# Altium footprint library BGA.PcbLib: 7 footprints
Each footprint in its own frame and in the unit in brackets; x right, y up, seen from the top. Pads: shape width x height; smd on the part's side, far side on the other; paste and mask are expansions set on the pad; w line width, h text height; cw(c..) or ccw(c..) is an arc to the next point about the centre after c.
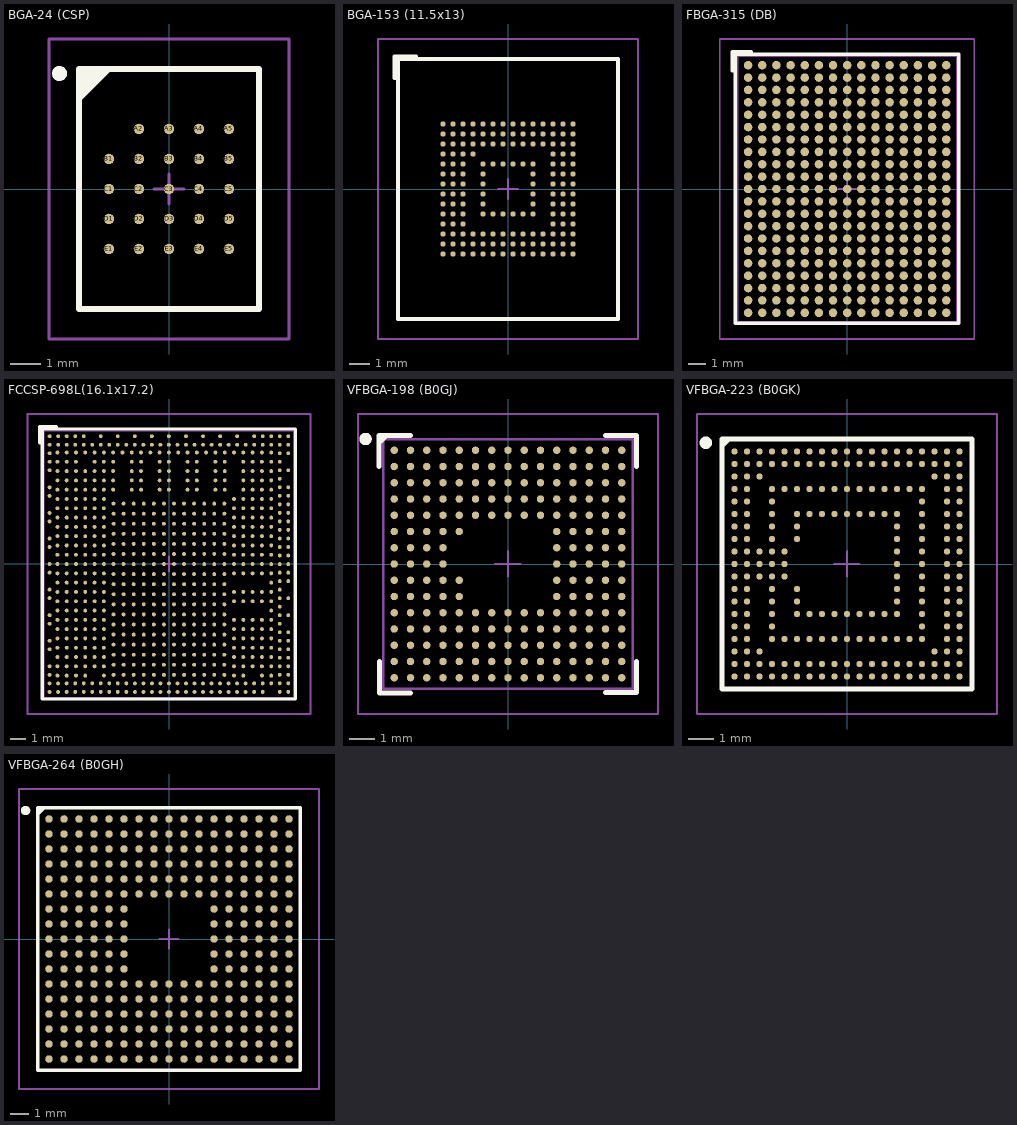
[diagram p0: the footprints below, top view; thin cyan lines are the x and y axes]

## BGA-24 (CSP) [mm] "BGA, 24-Leads, Body 6.00x8.00mmx1.20mm, Pitch 1.00mm"
height 1.2
pads (24):
  round 0.35 smd: A2(-1,2) A3(0,2) A4(1,2) A5(2,2) B1(-2,1) B2(-1,1) B3(0,1) B4(1,1) B5(2,1) C1(-2,0) C2(-1,0) C3(0,0) C4(1,0) C5(2,0) D1(-2,-1) D2(-1,-1) D3(0,-1) D4(1,-1) D5(2,-1) E1(-2,-2) E2(-1,-2) E3(0,-2) E4(1,-2) E5(2,-2)
Top Overlay:
  circle w0.25: c-3.65,3.85 r0.125
  region: -2,4 -3,3 -3,4
  lines w0.2: -3,3 -2,4 ; -3,-4 3,-4 3,4 -3,4 -3,-4
Mechanical 13:
  lines w0.1: -3,-4 3,-4 3,4 -3,4 -3,-4
Mechanical 15:
  lines w0.05: -3,-4 -3,4 3,4 3,-4 -3,-4
  lines w0.1: -0.5,0 0.5,0 ; 0,-0.5 0,0.5 ; -4,-5 4,-5 4,5 -4,5 -4,-5
3D body "BGA-24 (CSP).step": height 1.2, standoff 0, extent -3,-4 3,4

## BGA-153 (11.5x13) [mm] "BGA, 153-Leads, Body 11.00x13.00mmx0.95mm, Pitch 0.50mm"
height 0.95
pads (153):
  round 0.27 smd mask+0.05: A1(-3.25,3.25) A2(-2.75,3.25) A3(-2.25,3.25) A4(-1.75,3.25) A5(-1.25,3.25) A6(-0.75,3.25) A7(-0.25,3.25) A8(0.25,3.25) A9(0.75,3.25) A10(1.25,3.25) A11(1.75,3.25) A12(2.25,3.25) A13(2.75,3.25) A14(3.25,3.25) B1(-3.25,2.75) B2(-2.75,2.75) B3(-2.25,2.75) B4(-1.75,2.75) B5(-1.25,2.75) B6(-0.75,2.75) B7(-0.25,2.75) B8(0.25,2.75) B9(0.75,2.75) B10(1.25,2.75) B11(1.75,2.75) B12(2.25,2.75) B13(2.75,2.75) B14(3.25,2.75) C1(-3.25,2.25) C2(-2.75,2.25) C3(-2.25,2.25) C4(-1.75,2.25) C5(-1.25,2.25) C6(-0.75,2.25) C7(-0.25,2.25) C8(0.25,2.25) C9(0.75,2.25) C10(1.25,2.25) C11(1.75,2.25) C12(2.25,2.25) C13(2.75,2.25) C14(3.25,2.25) D1(-3.25,1.75) D2(-2.75,1.75) D3(-2.25,1.75) D4(-1.75,1.75) D12(2.25,1.75) D13(2.75,1.75) D14(3.25,1.75) E1(-3.25,1.25) E2(-2.75,1.25) E3(-2.25,1.25) E5(-1.25,1.25) E6(-0.75,1.25) E7(-0.25,1.25) E8(0.25,1.25) E9(0.75,1.25) E10(1.25,1.25) E12(2.25,1.25) E13(2.75,1.25) E14(3.25,1.25) F1(-3.25,0.75) F2(-2.75,0.75) F3(-2.25,0.75) F5(-1.25,0.75) F10(1.25,0.75) F12(2.25,0.75) F13(2.75,0.75) F14(3.25,0.75) G1(-3.25,0.25) G2(-2.75,0.25) G3(-2.25,0.25) G5(-1.25,0.25) G10(1.25,0.25) G12(2.25,0.25) G13(2.75,0.25) G14(3.25,0.25) H1(-3.25,-0.25) H2(-2.75,-0.25) H3(-2.25,-0.25) H5(-1.25,-0.25) H10(1.25,-0.25) H12(2.25,-0.25) H13(2.75,-0.25) H14(3.25,-0.25) J1(-3.25,-0.75) J2(-2.75,-0.75) J3(-2.25,-0.75) J5(-1.25,-0.75) J10(1.25,-0.75) J12(2.25,-0.75) J13(2.75,-0.75) J14(3.25,-0.75) K1(-3.25,-1.25) K2(-2.75,-1.25) K3(-2.25,-1.25) K5(-1.25,-1.25) K6(-0.75,-1.25) K7(-0.25,-1.25) K8(0.25,-1.25) K9(0.75,-1.25) K10(1.25,-1.25) K12(2.25,-1.25) K13(2.75,-1.25) K14(3.25,-1.25) L1(-3.25,-1.75) L2(-2.75,-1.75) L3(-2.25,-1.75) L12(2.25,-1.75) L13(2.75,-1.75) L14(3.25,-1.75) M1(-3.25,-2.25) M2(-2.75,-2.25) M3(-2.25,-2.25) M4(-1.75,-2.25) M5(-1.25,-2.25) M6(-0.75,-2.25) M7(-0.25,-2.25) M8(0.25,-2.25) M9(0.75,-2.25) M10(1.25,-2.25) M11(1.75,-2.25) M12(2.25,-2.25) M13(2.75,-2.25) M14(3.25,-2.25) N1(-3.25,-2.75) N2(-2.75,-2.75) N3(-2.25,-2.75) N4(-1.75,-2.75) N5(-1.25,-2.75) N6(-0.75,-2.75) N7(-0.25,-2.75) N8(0.25,-2.75) N9(0.75,-2.75) N10(1.25,-2.75) N11(1.75,-2.75) N12(2.25,-2.75) N13(2.75,-2.75) N14(3.25,-2.75) P1(-3.25,-3.25) P2(-2.75,-3.25) P3(-2.25,-3.25) P4(-1.75,-3.25) P5(-1.25,-3.25) P6(-0.75,-3.25) P7(-0.25,-3.25) P8(0.25,-3.25) P9(0.75,-3.25) P10(1.25,-3.25) P11(1.75,-3.25) P12(2.25,-3.25) P13(2.75,-3.25) P14(3.25,-3.25)
Top Overlay:
  lines w0.2: -5.664,5.559 -5.594,5.559 -5.594,6.559 -4.594,6.559 -4.594,6.631 -4.664,6.631 -5.664,6.631 -5.664,5.631 -5.664,5.559 ; -5.5,-6.5 -5.5,6.5 5.5,6.5 5.5,-6.5 -5.5,-6.5
Mechanical 13:
  lines w0.1: -5.5,-6.5 -5.5,6.5 5.5,6.5 5.5,-6.5 -5.5,-6.5
Mechanical 15:
  lines w0.05: -5.5,-6.5 -5.5,6.5 5.5,6.5 5.5,-6.5 -5.5,-6.5
  lines w0.1: -0.5,0 0.5,0 ; 0,-0.5 0,0.5 ; -6.5,-7.5 5.5,-7.5 6.5,-7.5 6.5,7.5 -6.5,7.5 -6.5,-7.5
3D body "BGA-153 (11.5x13).step": height 0.95, standoff 0, extent -5.5,-6.5 5.5,6.5

## FBGA-315 (DB) [mm] "BGA, 315-Leads, Body 12.40x15.00mmx1.10mm, Pitch 0.70/0.8mm"
height 1.1
pads (315):
  round 0.48 smd mask+0.05: A1(-5.6,7) A2(-4.8,7) A3(-4,7) A4(-3.2,7) A5(-2.4,7) A6(-1.6,7) A7(-0.8,7) A8(0,7) A9(0.8,7) A10(1.6,7) A11(2.4,7) A12(3.2,7) A13(4,7) A14(4.8,7) A15(5.6,7) AA1(-5.6,-7) AA2(-4.8,-7) AA3(-4,-7) AA4(-3.2,-7) AA5(-2.4,-7) AA6(-1.6,-7) AA7(-0.8,-7) AA8(0,-7) AA9(0.8,-7) AA10(1.6,-7) AA11(2.4,-7) AA12(3.2,-7) AA13(4,-7) AA14(4.8,-7) AA15(5.6,-7) B1(-5.6,6.3) B2(-4.8,6.3) B3(-4,6.3) B4(-3.2,6.3) B5(-2.4,6.3) B6(-1.6,6.3) B7(-0.8,6.3) B8(0,6.3) B9(0.8,6.3) B10(1.6,6.3) B11(2.4,6.3) B12(3.2,6.3) B13(4,6.3) B14(4.8,6.3) B15(5.6,6.3) C1(-5.6,5.6) C2(-4.8,5.6) C3(-4,5.6) C4(-3.2,5.6) C5(-2.4,5.6) C6(-1.6,5.6) C7(-0.8,5.6) C8(0,5.6) C9(0.8,5.6) C10(1.6,5.6) C11(2.4,5.6) C12(3.2,5.6) C13(4,5.6) C14(4.8,5.6) C15(5.6,5.6) D1(-5.6,4.9) D2(-4.8,4.9) D3(-4,4.9) D4(-3.2,4.9) D5(-2.4,4.9) D6(-1.6,4.9) D7(-0.8,4.9) D8(0,4.9) D9(0.8,4.9) D10(1.6,4.9) D11(2.4,4.9) D12(3.2,4.9) D13(4,4.9) D14(4.8,4.9) D15(5.6,4.9) E1(-5.6,4.2) E2(-4.8,4.2) E3(-4,4.2) E4(-3.2,4.2) E5(-2.4,4.2) E6(-1.6,4.2) E7(-0.8,4.2) E8(0,4.2) E9(0.8,4.2) E10(1.6,4.2) E11(2.4,4.2) E12(3.2,4.2) E13(4,4.2) E14(4.8,4.2) E15(5.6,4.2) F1(-5.6,3.5) F2(-4.8,3.5) F3(-4,3.5) F4(-3.2,3.5) F5(-2.4,3.5) F6(-1.6,3.5) F7(-0.8,3.5) F8(0,3.5) F9(0.8,3.5) F10(1.6,3.5) F11(2.4,3.5) F12(3.2,3.5) F13(4,3.5) F14(4.8,3.5) F15(5.6,3.5) G1(-5.6,2.8) G2(-4.8,2.8) G3(-4,2.8) G4(-3.2,2.8) G5(-2.4,2.8) G6(-1.6,2.8) G7(-0.8,2.8) G8(0,2.8) G9(0.8,2.8) G10(1.6,2.8) G11(2.4,2.8) G12(3.2,2.8) G13(4,2.8) G14(4.8,2.8) G15(5.6,2.8) H1(-5.6,2.1) H2(-4.8,2.1) H3(-4,2.1) H4(-3.2,2.1) H5(-2.4,2.1) H6(-1.6,2.1) H7(-0.8,2.1) H8(0,2.1) H9(0.8,2.1) H10(1.6,2.1) H11(2.4,2.1) H12(3.2,2.1) H13(4,2.1) H14(4.8,2.1) H15(5.6,2.1) J1(-5.6,1.4) J2(-4.8,1.4) J3(-4,1.4) J4(-3.2,1.4) J5(-2.4,1.4) J6(-1.6,1.4) J7(-0.8,1.4) J8(0,1.4) J9(0.8,1.4) J10(1.6,1.4) J11(2.4,1.4) J12(3.2,1.4) J13(4,1.4) J14(4.8,1.4) J15(5.6,1.4) K1(-5.6,0.7) K2(-4.8,0.7) K3(-4,0.7) K4(-3.2,0.7) K5(-2.4,0.7) K6(-1.6,0.7) K7(-0.8,0.7) K8(0,0.7) K9(0.8,0.7) K10(1.6,0.7) K11(2.4,0.7) K12(3.2,0.7) K13(4,0.7) K14(4.8,0.7) K15(5.6,0.7) L1(-5.6,0) L2(-4.8,0) L3(-4,0) L4(-3.2,0) L5(-2.4,0) L6(-1.6,0) L7(-0.8,0) L8(0,0) L9(0.8,0) L10(1.6,0) L11(2.4,0) L12(3.2,0) L13(4,0) L14(4.8,0) L15(5.6,0) M1(-5.6,-0.7) M2(-4.8,-0.7) M3(-4,-0.7) M4(-3.2,-0.7) M5(-2.4,-0.7) M6(-1.6,-0.7) M7(-0.8,-0.7) M8(0,-0.7) M9(0.8,-0.7) M10(1.6,-0.7) M11(2.4,-0.7) M12(3.2,-0.7) M13(4,-0.7) M14(4.8,-0.7) M15(5.6,-0.7) N1(-5.6,-1.4) N2(-4.8,-1.4) N3(-4,-1.4) N4(-3.2,-1.4) N5(-2.4,-1.4) N6(-1.6,-1.4) N7(-0.8,-1.4) N8(0,-1.4) N9(0.8,-1.4) N10(1.6,-1.4) N11(2.4,-1.4) N12(3.2,-1.4) N13(4,-1.4) N14(4.8,-1.4) N15(5.6,-1.4) P1(-5.6,-2.1) P2(-4.8,-2.1) P3(-4,-2.1) P4(-3.2,-2.1) P5(-2.4,-2.1) P6(-1.6,-2.1) P7(-0.8,-2.1) P8(0,-2.1) P9(0.8,-2.1) P10(1.6,-2.1) P11(2.4,-2.1) P12(3.2,-2.1) P13(4,-2.1) P14(4.8,-2.1) P15(5.6,-2.1) R1(-5.6,-2.8) R2(-4.8,-2.8) R3(-4,-2.8) R4(-3.2,-2.8) R5(-2.4,-2.8) R6(-1.6,-2.8) R7(-0.8,-2.8) R8(0,-2.8) R9(0.8,-2.8) R10(1.6,-2.8) R11(2.4,-2.8) R12(3.2,-2.8) R13(4,-2.8) R14(4.8,-2.8) R15(5.6,-2.8) T1(-5.6,-3.5) T2(-4.8,-3.5) T3(-4,-3.5) T4(-3.2,-3.5) T5(-2.4,-3.5) T6(-1.6,-3.5) T7(-0.8,-3.5) T8(0,-3.5) T9(0.8,-3.5) T10(1.6,-3.5) T11(2.4,-3.5) T12(3.2,-3.5) T13(4,-3.5) T14(4.8,-3.5) T15(5.6,-3.5) U1(-5.6,-4.2) U2(-4.8,-4.2) U3(-4,-4.2) U4(-3.2,-4.2) U5(-2.4,-4.2) U6(-1.6,-4.2) U7(-0.8,-4.2) U8(0,-4.2) U9(0.8,-4.2) U10(1.6,-4.2) U11(2.4,-4.2) U12(3.2,-4.2) U13(4,-4.2) U14(4.8,-4.2) U15(5.6,-4.2) V1(-5.6,-4.9) V2(-4.8,-4.9) V3(-4,-4.9) V4(-3.2,-4.9) V5(-2.4,-4.9) V6(-1.6,-4.9) V7(-0.8,-4.9) V8(0,-4.9) V9(0.8,-4.9) V10(1.6,-4.9) V11(2.4,-4.9) V12(3.2,-4.9) V13(4,-4.9) V14(4.8,-4.9) V15(5.6,-4.9) W1(-5.6,-5.6) W2(-4.8,-5.6) W3(-4,-5.6) W4(-3.2,-5.6) W5(-2.4,-5.6) W6(-1.6,-5.6) W7(-0.8,-5.6) W8(0,-5.6) W9(0.8,-5.6) W10(1.6,-5.6) W11(2.4,-5.6) W12(3.2,-5.6) W13(4,-5.6) W14(4.8,-5.6) W15(5.6,-5.6) Y1(-5.6,-6.3) Y2(-4.8,-6.3) Y3(-4,-6.3) Y4(-3.2,-6.3) Y5(-2.4,-6.3) Y6(-1.6,-6.3) Y7(-0.8,-6.3) Y8(0,-6.3) Y9(0.8,-6.3) Y10(1.6,-6.3) Y11(2.4,-6.3) Y12(3.2,-6.3) Y13(4,-6.3) Y14(4.8,-6.3) Y15(5.6,-6.3)
Top Overlay:
  lines w0.2: -6.484,6.689 -6.484,6.761 -6.484,7.761 -5.484,7.761 -5.414,7.761 -5.414,7.689 -6.414,7.689 -6.414,6.689 -6.484,6.689 ; -6.33,-7.6 6.3,-7.6 6.3,7.62 -4.56,7.62 -6.33,7.62 -6.33,-7.6
Mechanical 13:
  lines w0.1: -6.2,-7.5 -6.2,7.5 6.2,7.5 6.2,-7.5 -6.2,-7.5
Mechanical 15:
  lines w0.05: -6.2,-7.5 -6.2,7.5 6.2,7.5 6.2,-7.5 -6.2,-7.5
  lines w0.1: -0.5,0 0.5,0 ; 0,-0.5 0,0.5 ; -7.2,-8.48 -7.2,8.48 7.18,8.48 7.18,7.48 7.18,-8.48 -7.2,-8.48
3D body "FBGA-315 (DB).step": height 1.1, standoff 0, extent -6.2,-7.5 6.2,7.5

## FCCSP-698L(16.1x17.2) [mm] "RK3576; body: 16.1x17.2mm; ball size: 0.30mm; ball pitch:  0.55mm&0.60mm&0.65mm mixed"
height 1.18
pads (698):
  round 0.25 smd paste-100 mask+0.05: 1A1(-7.204,7.187) 1A2(-6.604,7.187) 1A3(-6.004,7.187) 1A4(-5.404,7.187) 1A5(-4.804,7.187) 1A6(-4.204,7.187) 1A7(-3.604,7.187) 1A8(-3.004,7.187) 1A9(-2.404,7.187) 1A10(-1.804,7.187) 1A11(-1.204,7.187) 1A12(-0.604,7.187) 1A13(-0.004,7.187) 1A14(0.596,7.187) 1A15(1.196,7.187) 1A16(1.796,7.187) 1A17(2.396,7.187) 1A18(2.996,7.187) 1A19(3.596,7.187) 1A20(4.196,7.187) 1A21(4.796,7.187) 1A22(5.396,7.187) 1A23(5.996,7.187) 1A24(6.596,7.187) 1AA1(-7.204,-4.813) 1AA2(-6.604,-4.813) 1AA3(-6.004,-4.813) 1AA4(-5.404,-4.813) 1AA5(-4.804,-4.813) 1AA6(-4.204,-4.813) 1AA20(4.196,-4.813) 1AA21(4.796,-4.813) 1AA22(5.396,-4.813) 1AA23(5.996,-4.813) 1AA24(6.596,-4.813) 1AB1(-7.204,-5.413) 1AB2(-6.604,-5.413) 1AB3(-6.004,-5.413) 1AB4(-5.404,-5.413) 1AB5(-4.804,-5.413) 1AB6(-4.204,-5.413) 1AB20(4.196,-5.413) 1AB21(4.796,-5.413) 1AB22(5.396,-5.413) 1AB23(5.996,-5.413) 1AB24(6.596,-5.413) 1AC1(-7.204,-6.013) 1AC2(-6.604,-6.013) 1AC3(-6.004,-6.013) 1AC4(-5.404,-6.013) 1AC5(-4.804,-6.013) 1AC6(-4.204,-6.013) 1AC20(4.196,-6.013) 1AC21(4.796,-6.013) 1AC22(5.396,-6.013) 1AC23(5.996,-6.013) 1AC24(6.596,-6.013) 1AD1(-7.204,-6.613) 1AD2(-6.604,-6.613) 1AD3(-6.004,-6.613) 1AD4(-5.404,-6.613) 1AD5(-4.804,-6.613) 1AD6(-4.204,-6.613) 1AD20(4.196,-6.613) 1AD21(4.796,-6.613) 1AD22(5.396,-6.613) 1AD23(5.996,-6.613) 1AD24(6.596,-6.613) 1AE1(-7.204,-7.213) 1AE2(-6.604,-7.213) 1AE3(-6.004,-7.213) 1AE4(-5.404,-7.213) 1AE6(-4.204,-7.213) 1AE20(4.196,-7.213) 1AE21(4.796,-7.213) 1AE23(5.996,-7.213) 1AE24(6.596,-7.213) 1B1(-7.204,6.587) 1B2(-6.604,6.587) 1B3(-6.004,6.587) 1B5(-4.804,6.587) 1B6(-4.204,6.587) 1B7(-3.604,6.587) 1B9(-2.404,6.587) 1B10(-1.804,6.587) 1B12(-0.604,6.587) 1B13(-0.004,6.587) 1B15(1.196,6.587) 1B16(1.796,6.587) 1B18(2.996,6.587) 1B19(3.596,6.587) 1B21(4.796,6.587) 1B22(5.396,6.587) 1B23(5.996,6.587) 1B24(6.596,6.587) 1C1(-7.204,5.987) 1C2(-6.604,5.987) 1C3(-6.004,5.987) 1C4(-5.404,5.987) 1C5(-4.804,5.987) 1C6(-4.204,5.987) 1C7(-3.604,5.987) 1C9(-2.404,5.987) 1C10(-1.804,5.987) 1C12(-0.604,5.987) 1C13(-0.004,5.987) 1C15(1.196,5.987) 1C16(1.796,5.987) 1C18(2.996,5.987) 1C19(3.596,5.987) 1C21(4.796,5.987) 1C22(5.396,5.987) 1C23(5.996,5.987) 1C24(6.596,5.987) 1D1(-7.204,5.387) 1D2(-6.604,5.387) 1D3(-6.004,5.387) 1D4(-5.404,5.387) 1D5(-4.804,5.387) 1D6(-4.204,5.387) 1D7(-3.604,5.387) 1D9(-2.404,5.387) 1D10(-1.804,5.387) 1D12(-0.604,5.387) 1D13(-0.004,5.387) 1D15(1.196,5.387) 1D16(1.796,5.387) 1D18(2.996,5.387) 1D19(3.596,5.387) 1D21(4.796,5.387) 1D22(5.396,5.387) 1D23(5.996,5.387) 1D24(6.596,5.387) 1E1(-7.204,4.787) 1E2(-6.604,4.787) 1E3(-6.004,4.787) 1E4(-5.404,4.787) 1E5(-4.804,4.787) 1E6(-4.204,4.787) 1E7(-3.604,4.787) 1E9(-2.404,4.787) 1E10(-1.804,4.787) 1E12(-0.604,4.787) 1E13(-0.004,4.787) 1E15(1.196,4.787) 1E16(1.796,4.787) 1E18(2.996,4.787) 1E19(3.596,4.787) 1E21(4.796,4.787) 1E22(5.396,4.787) 1E23(5.996,4.787) 1E24(6.596,4.787) 1F1(-7.204,4.187) 1F2(-6.604,4.187) 1F3(-6.004,4.187) 1F4(-5.404,4.187) 1F5(-4.804,4.187) 1F6(-4.204,4.187) 1F20(4.196,4.187) 1F21(4.796,4.187) 1F22(5.396,4.187) 1F23(5.996,4.187) 1F24(6.596,4.187) 1G1(-7.204,3.587) 1G2(-6.604,3.587) 1G3(-6.004,3.587) 1G4(-5.404,3.587) 1G5(-4.804,3.587) 1G6(-4.204,3.587) 1G20(4.196,3.587) 1G21(4.796,3.587) 1G22(5.396,3.587) 1G23(5.996,3.587) 1G24(6.596,3.587) 1H1(-7.204,2.987) 1H2(-6.604,2.987) 1H3(-6.004,2.987) 1H4(-5.404,2.987) 1H5(-4.804,2.987) 1H6(-4.204,2.987) 1H20(4.196,2.987) 1H21(4.796,2.987) 1H22(5.396,2.987) 1H23(5.996,2.987) 1H24(6.596,2.987) 1J1(-7.204,2.387) 1J2(-6.604,2.387) 1J3(-6.004,2.387) 1J4(-5.404,2.387) 1J5(-4.804,2.387) 1J6(-4.204,2.387) 1J20(4.196,2.387) 1J21(4.796,2.387) 1J22(5.396,2.387) 1J23(5.996,2.387) 1J24(6.596,2.387) 1K1(-7.204,1.787) 1K2(-6.604,1.787) 1K3(-6.004,1.787) 1K4(-5.404,1.787) 1K5(-4.804,1.787) 1K6(-4.204,1.787) 1K20(4.196,1.787) 1K21(4.796,1.787) 1K22(5.396,1.787) 1K23(5.996,1.787) 1K24(6.596,1.787) 1L1(-7.204,1.187) 1L2(-6.604,1.187) 1L3(-6.004,1.187) 1L4(-5.404,1.187) 1L5(-4.804,1.187) 1L6(-4.204,1.187) 1L20(4.196,1.187) 1L21(4.796,1.187) 1L22(5.396,1.187) 1L23(5.996,1.187) 1L24(6.596,1.187) 1M1(-7.204,0.587) 1M2(-6.604,0.587) 1M3(-6.004,0.587) 1M4(-5.404,0.587) 1M5(-4.804,0.587) 1M6(-4.204,0.587) 1M20(4.196,0.587) 1M21(4.796,0.587) 1M22(5.396,0.587) 1M23(5.996,0.587) 1M24(6.596,0.587) 1N1(-7.204,-0.013) 1N2(-6.604,-0.013) 1N3(-6.004,-0.013) 1N4(-5.404,-0.013) 1N5(-4.804,-0.013) 1N6(-4.204,-0.013) 1N20(4.196,-0.013) 1N21(4.796,-0.013) 1N22(5.396,-0.013) 1N23(5.996,-0.013) 1N24(6.596,-0.013) 1P1(-7.204,-0.613) 1P2(-6.604,-0.613) 1P3(-6.004,-0.613) 1P4(-5.404,-0.613) 1P5(-4.804,-0.613) 1P6(-4.204,-0.613) 1P20(4.196,-0.613) 1P21(4.796,-0.613) 1P22(5.396,-0.613) 1P23(5.996,-0.613) 1P24(6.596,-0.613) 1R1(-7.204,-1.213) 1R2(-6.604,-1.213) 1R3(-6.004,-1.213) 1R4(-5.404,-1.213) 1R5(-4.804,-1.213) 1R6(-4.204,-1.213) 1R24(6.596,-1.213) 1T1(-7.204,-1.813) 1T2(-6.604,-1.813) 1T3(-6.004,-1.813) 1T4(-5.404,-1.813) 1T5(-4.804,-1.813) 1T6(-4.204,-1.813) 1T20(4.196,-1.813) 1T21(4.796,-1.813) 1T22(5.396,-1.813) 1T23(5.996,-1.813) 1T24(6.596,-1.813) 1U1(-7.204,-2.413) 1U2(-6.604,-2.413) 1U3(-6.004,-2.413) 1U4(-5.404,-2.413) 1U5(-4.804,-2.413) 1U6(-4.204,-2.413) 1U20(4.196,-2.413) 1U21(4.796,-2.413) 1U22(5.396,-2.413) 1U23(5.996,-2.413) 1U24(6.596,-2.413) 1V1(-7.204,-3.013) 1V2(-6.604,-3.013) 1V3(-6.004,-3.013) 1V4(-5.404,-3.013) 1V5(-4.804,-3.013) 1V6(-4.204,-3.013) 1V24(6.596,-3.013) 1W1(-7.204,-3.613) 1W2(-6.604,-3.613) 1W3(-6.004,-3.613) 1W4(-5.404,-3.613) 1W5(-4.804,-3.613) 1W6(-4.204,-3.613) 1W20(4.196,-3.613) 1W21(4.796,-3.613) 1W22(5.396,-3.613) 1W23(5.996,-3.613) 1W24(6.596,-3.613) 1Y1(-7.204,-4.213) 1Y2(-6.604,-4.213) 1Y3(-6.004,-4.213) 1Y4(-5.404,-4.213) 1Y5(-4.804,-4.213) 1Y6(-4.204,-4.213) 1Y20(4.196,-4.213) 1Y21(4.796,-4.213) 1Y22(5.396,-4.213) 1Y23(5.996,-4.213) 1Y24(6.596,-4.213) 2A1(-3.579,3.887) 2A2(-2.929,3.887) 2A3(-2.279,3.887) 2A4(-1.629,3.887) 2A5(-0.979,3.887) 2A6(-0.329,3.887) 2A7(0.321,3.887) 2A8(0.971,3.887) 2A9(1.621,3.887) 2A10(2.271,3.887) 2A11(2.921,3.887) 2A12(3.571,3.887) 2B1(-3.579,3.237) 2B2(-2.929,3.237) 2B3(-2.279,3.237) 2B4(-1.629,3.237) 2B5(-0.979,3.237) 2B6(-0.329,3.237) 2B7(0.321,3.237) 2B8(0.971,3.237) 2B9(1.621,3.237) 2B10(2.271,3.237) 2B11(2.921,3.237) 2B12(3.571,3.237) 2C1(-3.579,2.587) 2C2(-2.929,2.587) 2C3(-2.279,2.587) 2C4(-1.629,2.587) 2C5(-0.979,2.587) 2C6(-0.329,2.587) 2C7(0.321,2.587) 2C8(0.971,2.587) 2C9(1.621,2.587) 2C10(2.271,2.587) 2C11(2.921,2.587) 2C12(3.571,2.587) 2D1(-3.579,1.937) 2D2(-2.929,1.937) 2D3(-2.279,1.937) 2D4(-1.629,1.937) 2D5(-0.979,1.937) 2D6(-0.329,1.937) 2D7(0.321,1.937) 2D8(0.971,1.937) 2D9(1.621,1.937) 2D10(2.271,1.937) 2D11(2.921,1.937) 2D12(3.571,1.937) 2E1(-3.579,1.287) 2E2(-2.929,1.287) 2E3(-2.279,1.287) 2E4(-1.629,1.287) 2E5(-0.979,1.287) 2E6(-0.329,1.287) 2E7(0.321,1.287) 2E8(0.971,1.287) 2E9(1.621,1.287) 2E10(2.271,1.287) 2E11(2.921,1.287) 2E12(3.571,1.287) 2F1(-3.579,0.637) 2F2(-2.929,0.637) 2F3(-2.279,0.637) 2F4(-1.629,0.637) 2F5(-0.979,0.637) 2F6(-0.329,0.637) 2F7(0.321,0.637) 2F8(0.971,0.637) 2F9(1.621,0.637) 2F10(2.271,0.637) 2F11(2.921,0.637) 2F12(3.571,0.637) 2G1(-3.579,-0.013) 2G2(-2.929,-0.013) 2G3(-2.279,-0.013) 2G4(-1.629,-0.013) 2G5(-0.979,-0.013) 2G6(-0.329,-0.013) 2G7(0.321,-0.013) 2G8(0.971,-0.013) 2G9(1.621,-0.013) 2G10(2.271,-0.013) 2G11(2.921,-0.013) 2G12(3.571,-0.013) 2H1(-3.579,-0.663) 2H2(-2.929,-0.663) 2H3(-2.279,-0.663) 2H4(-1.629,-0.663) 2H5(-0.979,-0.663) 2H6(-0.329,-0.663) 2H7(0.321,-0.663) 2H8(0.971,-0.663) 2H9(1.621,-0.663) 2H10(2.271,-0.663) 2H11(2.921,-0.663) 2H12(3.571,-0.663) 2J1(-3.579,-1.313) 2J2(-2.929,-1.313) 2J3(-2.279,-1.313) 2J4(-1.629,-1.313) 2J5(-0.979,-1.313) 2J6(-0.329,-1.313) 2J7(0.321,-1.313) 2J8(0.971,-1.313) 2J9(1.621,-1.313) 2J10(2.271,-1.313) 2J11(2.921,-1.313) 2J12(3.571,-1.313) 2K1(-3.579,-1.963) 2K2(-2.929,-1.963) 2K3(-2.279,-1.963) 2K4(-1.629,-1.963) 2K5(-0.979,-1.963) 2K6(-0.329,-1.963) 2K7(0.321,-1.963) 2K8(0.971,-1.963) 2K9(1.621,-1.963) 2K10(2.271,-1.963) 2K11(2.921,-1.963) 2K12(3.571,-1.963) 2L1(-3.579,-2.613) 2L2(-2.929,-2.613) 2L3(-2.279,-2.613) 2L4(-1.629,-2.613) 2L5(-0.979,-2.613) 2L6(-0.329,-2.613) 2L7(0.321,-2.613) 2L8(0.971,-2.613) 2L9(1.621,-2.613) 2L10(2.271,-2.613) 2L11(2.921,-2.613) 2L12(3.571,-2.613) 2M1(-3.579,-3.263) 2M2(-2.929,-3.263) 2M3(-2.279,-3.263) 2M4(-1.629,-3.263) 2M5(-0.979,-3.263) 2M6(-0.329,-3.263) 2M7(0.321,-3.263) 2M8(0.971,-3.263) 2M9(1.621,-3.263) 2M10(2.271,-3.263) 2M11(2.921,-3.263) 2M12(3.571,-3.263) 2N1(-3.579,-3.913) 2N2(-2.929,-3.913) 2N3(-2.279,-3.913) 2N4(-1.629,-3.913) 2N5(-0.979,-3.913) 2N6(-0.329,-3.913) 2N7(0.321,-3.913) 2N8(0.971,-3.913) 2N9(1.621,-3.913) 2N10(2.271,-3.913) 2N11(2.921,-3.913) 2N12(3.571,-3.913) 2P1(-3.579,-4.563) 2P2(-2.929,-4.563) 2P3(-2.279,-4.563) 2P4(-1.629,-4.563) 2P5(-0.979,-4.563) 2P6(-0.329,-4.563) 2P7(0.321,-4.563) 2P8(0.971,-4.563) 2P9(1.621,-4.563) 2P10(2.271,-4.563) 2P11(2.921,-4.563) 2P12(3.571,-4.563) 2R1(-3.579,-5.213) 2R2(-2.929,-5.213) 2R3(-2.279,-5.213) 2R4(-1.629,-5.213) 2R5(-0.979,-5.213) 2R6(-0.329,-5.213) 2R7(0.321,-5.213) 2R8(0.971,-5.213) 2R9(1.621,-5.213) 2R10(2.271,-5.213) 2R11(2.921,-5.213) 2R12(3.571,-5.213) 2T1(-3.579,-5.863) 2T2(-2.929,-5.863) 2T3(-2.279,-5.863) 2T4(-1.629,-5.863) 2T5(-0.979,-5.863) 2T6(-0.329,-5.863) 2T7(0.321,-5.863) 2T8(0.971,-5.863) 2T9(1.621,-5.863) 2T10(2.271,-5.863) 2T11(2.921,-5.863) 2T12(3.571,-5.863) 2U1(-3.579,-6.513) 2U2(-2.929,-6.513) 2U3(-2.279,-6.513) 2U4(-1.629,-6.513) 2U5(-0.979,-6.513) 2U6(-0.329,-6.513) 2U7(0.321,-6.513) 2U8(0.971,-6.513) 2U9(1.621,-6.513) 2U10(2.271,-6.513) 2U11(2.921,-6.513) 2U12(3.571,-6.513) 2V1(-3.579,-7.163) 2V2(-2.929,-7.163) 2V3(-2.279,-7.163) 2V4(-1.629,-7.163) 2V5(-0.979,-7.163) 2V6(-0.329,-7.163) 2V7(0.321,-7.163) 2V8(0.971,-7.163) 2V9(1.621,-7.163) 2V10(2.271,-7.163) 2V11(2.921,-7.163) 2V12(3.571,-7.163) A1(-7.704,8.237) A2(-7.154,8.237) A3(-6.604,8.237) A4(-6.054,8.237) A5(-5.504,8.237) A7(-4.404,8.237) A9(-3.304,8.237) A11(-2.204,8.237) A13(-1.104,8.237) A15(-0.004,8.237) A17(1.096,8.237) A19(2.196,8.237) A21(3.296,8.237) A23(4.396,8.237) A25(5.496,8.237) A26(6.046,8.237) A27(6.596,8.237) A28(7.146,8.237) A29(7.696,8.237) AA28(7.146,-2.763) AB1(-7.704,-3.313) AB28(7.146,-3.313) AB29(7.696,-3.313) AC1(-7.704,-3.863) AC28(7.146,-3.863) AD28(7.146,-4.413) AD29(7.696,-4.413) AE1(-7.704,-4.963) AE28(7.146,-4.963) AE29(7.696,-4.963) AF1(-7.704,-5.513) AF28(7.146,-5.513) AF29(7.696,-5.513) AG28(7.146,-6.063) AG29(7.696,-6.063) AH1(-7.704,-6.613) AH28(7.146,-6.613) AH29(7.696,-6.613) AJ1(-7.704,-7.163) AJ28(7.146,-7.163) AJ29(7.696,-7.163) AK1(-7.704,-7.713) AK2(-7.154,-7.713) AK3(-6.604,-7.713) AK4(-6.054,-7.713) AK5(-5.504,-7.713) AK6(-4.954,-7.713) AK7(-4.404,-7.713) AK8(-3.854,-7.713) AK9(-3.304,-7.713) AK10(-2.754,-7.713) AK11(-2.204,-7.713) AK12(-1.654,-7.713) AK13(-1.104,-7.713) AK14(-0.554,-7.713) AK15(-0.004,-7.713) AK16(0.546,-7.713) AK17(1.096,-7.713) AK18(1.646,-7.713) AK19(2.196,-7.713) AK20(2.746,-7.713) AK21(3.296,-7.713) AK22(3.846,-7.713) AK23(4.396,-7.713) AK24(4.946,-7.713) AK25(5.496,-7.713) AK26(6.046,-7.713) AK27(6.596,-7.713) AK28(7.146,-7.713) AK29(7.696,-7.713) AL1(-7.704,-8.263) AL2(-7.154,-8.263) AL3(-6.604,-8.263) AL4(-6.054,-8.263) AL5(-5.504,-8.263) AL6(-4.954,-8.263) AL7(-4.404,-8.263) AL8(-3.854,-8.263) AL9(-3.304,-8.263) AL10(-2.754,-8.263) AL11(-2.204,-8.263) AL12(-1.654,-8.263) AL13(-1.104,-8.263) AL14(-0.554,-8.263) AL15(-0.004,-8.263) AL16(0.546,-8.263) AL17(1.096,-8.263) AL18(1.646,-8.263) AL19(2.196,-8.263) AL20(2.746,-8.263) AL21(3.296,-8.263) AL22(3.846,-8.263) AL23(4.396,-8.263) AL24(4.946,-8.263) AL25(5.496,-8.263) AL26(6.046,-8.263) AL28(7.146,-8.263) AL29(7.696,-8.263) B1(-7.704,7.687) B2(-7.154,7.687) B3(-6.604,7.687) B4(-6.054,7.687) B5(-5.504,7.687) B6(-4.954,7.687) B7(-4.404,7.687) B8(-3.854,7.687) B9(-3.304,7.687) B10(-2.754,7.687) B11(-2.204,7.687) B12(-1.654,7.687) B13(-1.104,7.687) B14(-0.554,7.687) B15(-0.004,7.687) B16(0.546,7.687) B17(1.096,7.687) B18(1.646,7.687) B19(2.196,7.687) B20(2.746,7.687) B21(3.296,7.687) B22(3.846,7.687) B23(4.396,7.687) B24(4.946,7.687) B25(5.496,7.687) B26(6.046,7.687) B27(6.596,7.687) B28(7.146,7.687) B29(7.696,7.687) C1(-7.704,7.137) C28(7.146,7.137) C29(7.696,7.137) D1(-7.704,6.587) D28(7.146,6.587) E1(-7.704,6.037) E28(7.146,6.037) E29(7.696,6.037) F28(7.146,5.487) G1(-7.704,4.937) G28(7.146,4.937) G29(7.696,4.937) H1(-7.704,4.387) H28(7.146,4.387) H29(7.696,4.387) J28(7.146,3.837) J29(7.696,3.837) K1(-7.704,3.287) K28(7.146,3.287) K29(7.696,3.287) L1(-7.704,2.737) L28(7.146,2.737) L29(7.696,2.737) M28(7.146,2.187) M29(7.696,2.187) N1(-7.704,1.637) N28(7.146,1.637) N29(7.696,1.637) P1(-7.704,1.087) P28(7.146,1.087) P29(7.696,1.087) R28(7.146,0.537) R29(7.696,0.537) T1(-7.704,-0.013) T28(7.146,-0.013) T29(7.696,-0.013) U1(-7.704,-0.563) U28(7.146,-0.563) U29(7.696,-0.563) V28(7.146,-1.113) V29(7.696,-1.113) W1(-7.704,-1.663) W28(7.146,-1.663) Y1(-7.704,-2.213) Y28(7.146,-2.213) Y29(7.696,-2.213)
Top Overlay:
  lines w0.2: -8.342,8.859 -8.342,7.859 -8.342,7.787 -8.272,7.787 -8.272,8.787 -7.272,8.787 -7.272,8.859 -7.342,8.859 -8.342,8.859 ; -8.183,-8.732 -8.183,8.69 8.151,8.69 8.151,-8.732 -8.183,-8.732
Top Paste:
  drawing of 698 lines, arcs and shapes, not listed
Mechanical 15:
  lines w0.051: -8.054,-8.613 8.046,-8.613 8.046,8.587 -8.054,8.587 -8.054,-8.613
  lines w0.1: -0.5,0 0.5,0 ; 0,-0.5 0,0.5 ; -9.13,-9.69 9.13,-9.69 9.13,9.67 -9.13,9.67 -9.13,-9.69
3D body "BGA698C55P29X31_1610X1720X118.step": height 1.18, standoff 0, extent -8.04,-8.61 8.06,8.59

## VFBGA-198 (B0GJ) [mm] "VFBGA, 198-Leads, Body 10.00x10.00mmx1.00mm, Pitch 0.65mm"
height 1
pads (198):
  round 0.3 smd mask+0.04: A1(-4.55,4.55) A2(-3.9,4.55) A3(-3.25,4.55) A4(-2.6,4.55) A5(-1.95,4.55) A6(-1.3,4.55) A7(-0.65,4.55) A8(0,4.55) A9(0.65,4.55) A10(1.3,4.55) A11(1.95,4.55) A12(2.6,4.55) A13(3.25,4.55) A14(3.9,4.55) A15(4.55,4.55) B1(-4.55,3.9) B2(-3.9,3.9) B3(-3.25,3.9) B4(-2.6,3.9) B5(-1.95,3.9) B6(-1.3,3.9) B7(-0.65,3.9) B8(0,3.9) B9(0.65,3.9) B10(1.3,3.9) B11(1.95,3.9) B12(2.6,3.9) B13(3.25,3.9) B14(3.9,3.9) B15(4.55,3.9) C1(-4.55,3.25) C2(-3.9,3.25) C3(-3.25,3.25) C4(-2.6,3.25) C5(-1.95,3.25) C6(-1.3,3.25) C7(-0.65,3.25) C8(0,3.25) C9(0.65,3.25) C10(1.3,3.25) C11(1.95,3.25) C12(2.6,3.25) C13(3.25,3.25) C14(3.9,3.25) C15(4.55,3.25) D1(-4.55,2.6) D2(-3.9,2.6) D3(-3.25,2.6) D4(-2.6,2.6) D5(-1.95,2.6) D6(-1.3,2.6) D7(-0.65,2.6) D8(0,2.6) D9(0.65,2.6) D10(1.3,2.6) D11(1.95,2.6) D12(2.6,2.6) D13(3.25,2.6) D14(3.9,2.6) D15(4.55,2.6) E1(-4.55,1.95) E2(-3.9,1.95) E3(-3.25,1.95) E4(-2.6,1.95) E5(-1.95,1.95) E6(-1.3,1.95) E7(-0.65,1.95) E8(0,1.95) E9(0.65,1.95) E10(1.3,1.95) E11(1.95,1.95) E12(2.6,1.95) E13(3.25,1.95) E14(3.9,1.95) E15(4.55,1.95) F1(-4.55,1.3) F2(-3.9,1.3) F3(-3.25,1.3) F4(-2.6,1.3) F5(-1.95,1.3) F11(1.95,1.3) F12(2.6,1.3) F13(3.25,1.3) F14(3.9,1.3) F15(4.55,1.3) G1(-4.55,0.65) G2(-3.9,0.65) G3(-3.25,0.65) G4(-2.6,0.65) G11(1.95,0.65) G12(2.6,0.65) G13(3.25,0.65) G14(3.9,0.65) G15(4.55,0.65) H1(-4.55,0) H2(-3.9,0) H3(-3.25,0) H4(-2.6,0) H11(1.95,0) H12(2.6,0) H13(3.25,0) H14(3.9,0) H15(4.55,0) J1(-4.55,-0.65) J2(-3.9,-0.65) J3(-3.25,-0.65) J4(-2.6,-0.65) J5(-1.95,-0.65) J11(1.95,-0.65) J12(2.6,-0.65) J13(3.25,-0.65) J14(3.9,-0.65) J15(4.55,-0.65) K1(-4.55,-1.3) K2(-3.9,-1.3) K3(-3.25,-1.3) K4(-2.6,-1.3) K5(-1.95,-1.3) K11(1.95,-1.3) K12(2.6,-1.3) K13(3.25,-1.3) K14(3.9,-1.3) K15(4.55,-1.3) L1(-4.55,-1.95) L2(-3.9,-1.95) L3(-3.25,-1.95) L4(-2.6,-1.95) L5(-1.95,-1.95) L6(-1.3,-1.95) L7(-0.65,-1.95) L8(0,-1.95) L9(0.65,-1.95) L10(1.3,-1.95) L11(1.95,-1.95) L12(2.6,-1.95) L13(3.25,-1.95) L14(3.9,-1.95) L15(4.55,-1.95) M1(-4.55,-2.6) M2(-3.9,-2.6) M3(-3.25,-2.6) M4(-2.6,-2.6) M5(-1.95,-2.6) M6(-1.3,-2.6) M7(-0.65,-2.6) M8(0,-2.6) M9(0.65,-2.6) M10(1.3,-2.6) M11(1.95,-2.6) M12(2.6,-2.6) M13(3.25,-2.6) M14(3.9,-2.6) M15(4.55,-2.6) N1(-4.55,-3.25) N2(-3.9,-3.25) N3(-3.25,-3.25) N4(-2.6,-3.25) N5(-1.95,-3.25) N6(-1.3,-3.25) N7(-0.65,-3.25) N8(0,-3.25) N9(0.65,-3.25) N10(1.3,-3.25) N11(1.95,-3.25) N12(2.6,-3.25) N13(3.25,-3.25) N14(3.9,-3.25) N15(4.55,-3.25) P1(-4.55,-3.9) P2(-3.9,-3.9) P3(-3.25,-3.9) P4(-2.6,-3.9) P5(-1.95,-3.9) P6(-1.3,-3.9) P7(-0.65,-3.9) P8(0,-3.9) P9(0.65,-3.9) P10(1.3,-3.9) P11(1.95,-3.9) P12(2.6,-3.9) P13(3.25,-3.9) P14(3.9,-3.9) P15(4.55,-3.9) R1(-4.55,-4.55) R2(-3.9,-4.55) R3(-3.25,-4.55) R4(-2.6,-4.55) R5(-1.95,-4.55) R6(-1.3,-4.55) R7(-0.65,-4.55) R8(0,-4.55) R9(0.65,-4.55) R10(1.3,-4.55) R11(1.95,-4.55) R12(2.6,-4.55) R13(3.25,-4.55) R14(3.9,-4.55) R15(4.55,-4.55)
Top Overlay:
  circle w0.25: c-5.7,5 r0.125
  lines w0.2: -5.154,5.148 -3.904,5.148 ; -5.153,3.898 -5.153,5.148 ; -5.15,4.852 -4.892,5.11 ; -5.148,-5.154 -5.148,-3.904 ; -5.148,-5.153 -3.898,-5.153 ; 3.894,-5.148 5.144,-5.148 ; 3.9,5.149 5.15,5.149 ; 5.143,-5.148 5.143,-3.898 ; 5.15,3.9 5.15,5.15
Mechanical 13:
  lines w0.1: -5,-5 5,-5 5,5 -5,5 -5,-5
Mechanical 15:
  lines w0.05: -5,-5 5,-5 5,5 -5,5 -5,-5
  lines w0.1: -0.5,0 0.5,0 ; 0,-0.5 0,0.5 ; -6,-6 -6,6 6,6 6,-6 -6,-6
3D body "VFBGA198_10X10_STM.step": height 0.99, standoff 0, extent -5.004,-5.004 5.004,5.004

## VFBGA-223 (B0GK) [mm] "VFBGA, 223-Leads, Body 10.00x10.00mmx1.00mm, Pitch 0.50mm"
height 1
pads (223):
  round 0.25 smd mask+0.04: A1(-4.5,4.5) A2(-4,4.5) A3(-3.5,4.5) A4(-3,4.5) A5(-2.5,4.5) A6(-2,4.5) A7(-1.5,4.5) A8(-1,4.5) A9(-0.5,4.5) A10(0,4.5) A11(0.5,4.5) A12(1,4.5) A13(1.5,4.5) A14(2,4.5) A15(2.5,4.5) A16(3,4.5) A17(3.5,4.5) A18(4,4.5) A19(4.5,4.5) B1(-4.5,4) B2(-4,4) B3(-3.5,4) B4(-3,4) B5(-2.5,4) B6(-2,4) B7(-1.5,4) B8(-1,4) B9(-0.5,4) B10(0,4) B11(0.5,4) B12(1,4) B13(1.5,4) B14(2,4) B15(2.5,4) B16(3,4) B17(3.5,4) B18(4,4) B19(4.5,4) C1(-4.5,3.5) C2(-4,3.5) C3(-3.5,3.5) C17(3.5,3.5) C18(4,3.5) C19(4.5,3.5) D1(-4.5,3) D2(-4,3) D4(-3,3) D5(-2.5,3) D6(-2,3) D7(-1.5,3) D8(-1,3) D9(-0.5,3) D10(0,3) D11(0.5,3) D12(1,3) D13(1.5,3) D14(2,3) D15(2.5,3) D16(3,3) D18(4,3) D19(4.5,3) E1(-4.5,2.5) E2(-4,2.5) E4(-3,2.5) E16(3,2.5) E18(4,2.5) E19(4.5,2.5) F1(-4.5,2) F2(-4,2) F4(-3,2) F6(-2,2) F7(-1.5,2) F8(-1,2) F9(-0.5,2) F10(0,2) F11(0.5,2) F12(1,2) F13(1.5,2) F14(2,2) F16(3,2) F18(4,2) F19(4.5,2) G1(-4.5,1.5) G2(-4,1.5) G4(-3,1.5) G6(-2,1.5) G14(2,1.5) G16(3,1.5) G18(4,1.5) G19(4.5,1.5) H1(-4.5,1) H2(-4,1) H4(-3,1) H6(-2,1) H14(2,1) H16(3,1) H18(4,1) H19(4.5,1) J1(-4.5,0.5) J2(-4,0.5) J3(-3.5,0.5) J4(-3,0.5) J5(-2.5,0.5) J14(2,0.5) J16(3,0.5) J18(4,0.5) J19(4.5,0.5) K1(-4.5,0) K2(-4,0) K3(-3.5,0) K4(-3,0) K5(-2.5,0) K14(2,0) K16(3,0) K18(4,0) K19(4.5,0) L1(-4.5,-0.5) L2(-4,-0.5) L3(-3.5,-0.5) L4(-3,-0.5) L5(-2.5,-0.5) L14(2,-0.5) L16(3,-0.5) L18(4,-0.5) L19(4.5,-0.5) M1(-4.5,-1) M2(-4,-1) M4(-3,-1) M6(-2,-1) M14(2,-1) M16(3,-1) M18(4,-1) M19(4.5,-1) N1(-4.5,-1.5) N2(-4,-1.5) N4(-3,-1.5) N6(-2,-1.5) N14(2,-1.5) N16(3,-1.5) N18(4,-1.5) N19(4.5,-1.5) P1(-4.5,-2) P2(-4,-2) P4(-3,-2) P6(-2,-2) P7(-1.5,-2) P8(-1,-2) P9(-0.5,-2) P10(0,-2) P11(0.5,-2) P12(1,-2) P13(1.5,-2) P14(2,-2) P16(3,-2) P18(4,-2) P19(4.5,-2) R1(-4.5,-2.5) R2(-4,-2.5) R4(-3,-2.5) R16(3,-2.5) R18(4,-2.5) R19(4.5,-2.5) T1(-4.5,-3) T2(-4,-3) T4(-3,-3) T5(-2.5,-3) T6(-2,-3) T7(-1.5,-3) T8(-1,-3) T9(-0.5,-3) T10(0,-3) T11(0.5,-3) T12(1,-3) T13(1.5,-3) T14(2,-3) T15(2.5,-3) T16(3,-3) T18(4,-3) T19(4.5,-3) U1(-4.5,-3.5) U2(-4,-3.5) U3(-3.5,-3.5) U17(3.5,-3.5) U18(4,-3.5) U19(4.5,-3.5) V1(-4.5,-4) V2(-4,-4) V3(-3.5,-4) V4(-3,-4) V5(-2.5,-4) V6(-2,-4) V7(-1.5,-4) V8(-1,-4) V9(-0.5,-4) V10(0,-4) V11(0.5,-4) V12(1,-4) V13(1.5,-4) V14(2,-4) V15(2.5,-4) V16(3,-4) V17(3.5,-4) V18(4,-4) V19(4.5,-4) W1(-4.5,-4.5) W2(-4,-4.5) W3(-3.5,-4.5) W4(-3,-4.5) W5(-2.5,-4.5) W6(-2,-4.5) W7(-1.5,-4.5) W8(-1,-4.5) W9(-0.5,-4.5) W10(0,-4.5) W11(0.5,-4.5) W12(1,-4.5) W13(1.5,-4.5) W14(2,-4.5) W15(2.5,-4.5) W16(3,-4.5) W17(3.5,-4.5) W18(4,-4.5) W19(4.5,-4.5)
Top Overlay:
  circle w0.25: c-5.65,4.85 r0.125
  region: -4.742,5 -5,4.742 -5,5
  lines w0.2: -5,4.742 -4.742,5 ; -5,-5 5,-5 5,5 -5,5 -5,-5
Mechanical 13:
  lines w0.1: -5,-5 5,-5 5,5 -5,5 -5,-5
Mechanical 15:
  lines w0.05: -5,-5 5,-5 5,5 -5,5 -5,-5
  lines w0.1: -0.5,0 0.5,0 ; 0,-0.5 0,0.5 ; -6,-6 6,-6 6,6 -6,6 -6,-6
3D body "VFBGA223 (B0GK).step": height 1, standoff 0, extent -5,-5 5,5

## VFBGA-264 (B0GH) [mm] "BGA, 264-Leads, Body 14.00x14.00mmx1.00mm, Pitch 0.80mm"
height 1
pads (264):
  round 0.4 smd mask+0.05: A1(-6.4,6.4) A2(-5.6,6.4) A3(-4.8,6.4) A4(-4,6.4) A5(-3.2,6.4) A6(-2.4,6.4) A7(-1.6,6.4) A8(-0.8,6.4) A9(0,6.4) A10(0.8,6.4) A11(1.6,6.4) A12(2.4,6.4) A13(3.2,6.4) A14(4,6.4) A15(4.8,6.4) A16(5.6,6.4) A17(6.4,6.4) B1(-6.4,5.6) B2(-5.6,5.6) B3(-4.8,5.6) B4(-4,5.6) B5(-3.2,5.6) B6(-2.4,5.6) B7(-1.6,5.6) B8(-0.8,5.6) B9(0,5.6) B10(0.8,5.6) B11(1.6,5.6) B12(2.4,5.6) B13(3.2,5.6) B14(4,5.6) B15(4.8,5.6) B16(5.6,5.6) B17(6.4,5.6) C1(-6.4,4.8) C2(-5.6,4.8) C3(-4.8,4.8) C4(-4,4.8) C5(-3.2,4.8) C6(-2.4,4.8) C7(-1.6,4.8) C8(-0.8,4.8) C9(0,4.8) C10(0.8,4.8) C11(1.6,4.8) C12(2.4,4.8) C13(3.2,4.8) C14(4,4.8) C15(4.8,4.8) C16(5.6,4.8) C17(6.4,4.8) D1(-6.4,4) D2(-5.6,4) D3(-4.8,4) D4(-4,4) D5(-3.2,4) D6(-2.4,4) D7(-1.6,4) D8(-0.8,4) D9(0,4) D10(0.8,4) D11(1.6,4) D12(2.4,4) D13(3.2,4) D14(4,4) D15(4.8,4) D16(5.6,4) D17(6.4,4) E1(-6.4,3.2) E2(-5.6,3.2) E3(-4.8,3.2) E4(-4,3.2) E5(-3.2,3.2) E6(-2.4,3.2) E7(-1.6,3.2) E8(-0.8,3.2) E9(0,3.2) E10(0.8,3.2) E11(1.6,3.2) E12(2.4,3.2) E13(3.2,3.2) E14(4,3.2) E15(4.8,3.2) E16(5.6,3.2) E17(6.4,3.2) F1(-6.4,2.4) F2(-5.6,2.4) F3(-4.8,2.4) F4(-4,2.4) F5(-3.2,2.4) F6(-2.4,2.4) F7(-1.6,2.4) F8(-0.8,2.4) F9(0,2.4) F10(0.8,2.4) F11(1.6,2.4) F12(2.4,2.4) F13(3.2,2.4) F14(4,2.4) F15(4.8,2.4) F16(5.6,2.4) F17(6.4,2.4) G1(-6.4,1.6) G2(-5.6,1.6) G3(-4.8,1.6) G4(-4,1.6) G5(-3.2,1.6) G6(-2.4,1.6) G12(2.4,1.6) G13(3.2,1.6) G14(4,1.6) G15(4.8,1.6) G16(5.6,1.6) G17(6.4,1.6) H1(-6.4,0.8) H2(-5.6,0.8) H3(-4.8,0.8) H4(-4,0.8) H5(-3.2,0.8) H6(-2.4,0.8) H12(2.4,0.8) H13(3.2,0.8) H14(4,0.8) H15(4.8,0.8) H16(5.6,0.8) H17(6.4,0.8) J1(-6.4,0) J2(-5.6,0) J3(-4.8,0) J4(-4,0) J5(-3.2,0) J6(-2.4,0) J12(2.4,0) J13(3.2,0) J14(4,0) J15(4.8,0) J16(5.6,0) J17(6.4,0) K1(-6.4,-0.8) K2(-5.6,-0.8) K3(-4.8,-0.8) K4(-4,-0.8) K5(-3.2,-0.8) K6(-2.4,-0.8) K12(2.4,-0.8) K13(3.2,-0.8) K14(4,-0.8) K15(4.8,-0.8) K16(5.6,-0.8) K17(6.4,-0.8) L1(-6.4,-1.6) L2(-5.6,-1.6) L3(-4.8,-1.6) L4(-4,-1.6) L5(-3.2,-1.6) L6(-2.4,-1.6) L12(2.4,-1.6) L13(3.2,-1.6) L14(4,-1.6) L15(4.8,-1.6) L16(5.6,-1.6) L17(6.4,-1.6) M1(-6.4,-2.4) M2(-5.6,-2.4) M3(-4.8,-2.4) M4(-4,-2.4) M5(-3.2,-2.4) M6(-2.4,-2.4) M7(-1.6,-2.4) M8(-0.8,-2.4) M9(0,-2.4) M10(0.8,-2.4) M11(1.6,-2.4) M12(2.4,-2.4) M13(3.2,-2.4) M14(4,-2.4) M15(4.8,-2.4) M16(5.6,-2.4) M17(6.4,-2.4) N1(-6.4,-3.2) N2(-5.6,-3.2) N3(-4.8,-3.2) N4(-4,-3.2) N5(-3.2,-3.2) N6(-2.4,-3.2) N7(-1.6,-3.2) N8(-0.8,-3.2) N9(0,-3.2) N10(0.8,-3.2) N11(1.6,-3.2) N12(2.4,-3.2) N13(3.2,-3.2) N14(4,-3.2) N15(4.8,-3.2) N16(5.6,-3.2) N17(6.4,-3.2) P1(-6.4,-4) P2(-5.6,-4) P3(-4.8,-4) P4(-4,-4) P5(-3.2,-4) P6(-2.4,-4) P7(-1.6,-4) P8(-0.8,-4) P9(0,-4) P10(0.8,-4) P11(1.6,-4) P12(2.4,-4) P13(3.2,-4) P14(4,-4) P15(4.8,-4) P16(5.6,-4) P17(6.4,-4) R1(-6.4,-4.8) R2(-5.6,-4.8) R3(-4.8,-4.8) R4(-4,-4.8) R5(-3.2,-4.8) R6(-2.4,-4.8) R7(-1.6,-4.8) R8(-0.8,-4.8) R9(0,-4.8) R10(0.8,-4.8) R11(1.6,-4.8) R12(2.4,-4.8) R13(3.2,-4.8) R14(4,-4.8) R15(4.8,-4.8) R16(5.6,-4.8) R17(6.4,-4.8) T1(-6.4,-5.6) T2(-5.6,-5.6) T3(-4.8,-5.6) T4(-4,-5.6) T5(-3.2,-5.6) T6(-2.4,-5.6) T7(-1.6,-5.6) T8(-0.8,-5.6) T9(0,-5.6) T10(0.8,-5.6) T11(1.6,-5.6) T12(2.4,-5.6) T13(3.2,-5.6) T14(4,-5.6) T15(4.8,-5.6) T16(5.6,-5.6) T17(6.4,-5.6) U1(-6.4,-6.4) U2(-5.6,-6.4) U3(-4.8,-6.4) U4(-4,-6.4) U5(-3.2,-6.4) U6(-2.4,-6.4) U7(-1.6,-6.4) U8(-0.8,-6.4) U9(0,-6.4) U10(0.8,-6.4) U11(1.6,-6.4) U12(2.4,-6.4) U13(3.2,-6.4) U14(4,-6.4) U15(4.8,-6.4) U16(5.6,-6.4) U17(6.4,-6.4)
Top Overlay:
  circle w0.25: c-7.65,6.85 r0.125
  region: -6.649,7 -7,6.649 -7,7
  lines w0.2: -7,6.649 -6.649,7 ; -7,-7 -7,7 7,7 7,-7 -7,-7
Mechanical 13:
  lines w0.1: -7,-7 -7,7 7,7 7,-7 -7,-7
Mechanical 15:
  lines w0.05: -7,-7 7,-7 7,7 -7,7 -7,-7
  lines w0.1: -0.5,0 0.5,0 ; 0,-0.5 0,0.5 ; -8,-8 -8,8 8,8 8,-8 -8,-8
3D body "VFBGA-264 (B0GH).step": height 1, standoff 0, extent -7,-7 7,7